# Altium schematic symbol library 毕设原理图库.SchLib: 6 symbols
Pins are listed as number, name and electrical type; pins without a type are passive.

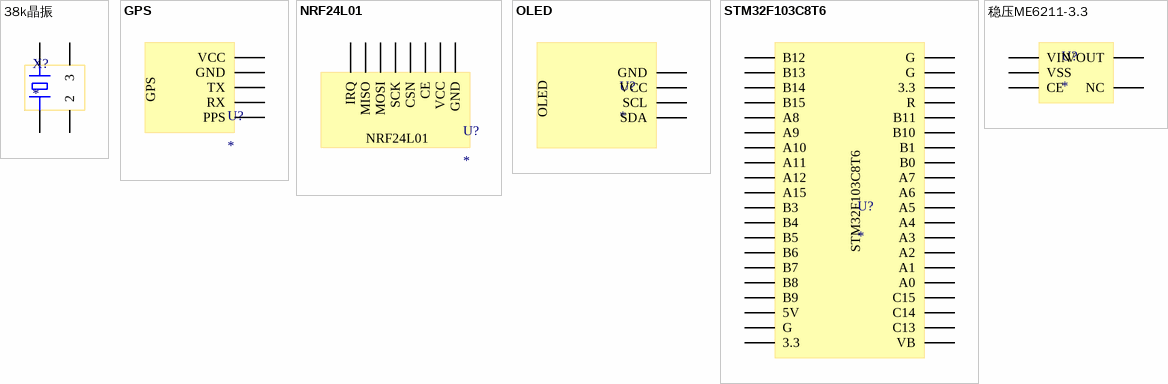
[diagram p0: symbols 38k晶振 to 稳压ME6211-3.3]

## 38k晶振
designator X?
footprint 38k晶振
pins: 1, 2, 3, 4

## GPS
designator U?
footprint GPS
pins: 1 PPS, 2 RX, 3 TX, 4 GND, 5 VCC

## NRF24L01
designator U?
footprint NRF24L01
pins: 1 GND, 2 VCC, 3 CE, 4 CSN, 5 SCK, 6 MOSI, 7 MISO, 8 IRQ

## OLED
designator U?
footprint OLED
pins: 1 SDA, 2 SCL, 3 VCC, 4 GND

## STM32F103C8T6
designator U?
footprint STM32F103C8T6
pins: 1 VB, 2 C13, 3 C14, 4 C15, 5 A0, 6 A1, 7 A2, 8 A3, 9 A4, 10 A5, 11 A6, 12 A7, 13 B0, 14 B1, 15 B10, 16 B11, 17 R, 18 3.3, 19 G, 20 G, 21 3.3, 22 G, 23 5V, 24 B9, 25 B8, 26 B7, 27 B6, 28 B5, 29 B4, 30 B3, 31 A15, 32 A12, 33 A11, 34 A10, 35 A9, 36 A8, 37 B15, 38 B14, 39 B13, 40 B12

## 稳压ME6211-3.3
designator U?
footprint 稳压ME6211-3.3
pins: 5 VIN, 6 VSS, 7 CE, 8 NC, 9 VOUT